# Altium schematic symbol library SCHLIB_Autobot.SchLib: 4 symbols
Pins are listed as number, name and electrical type; pins without a type are passive.

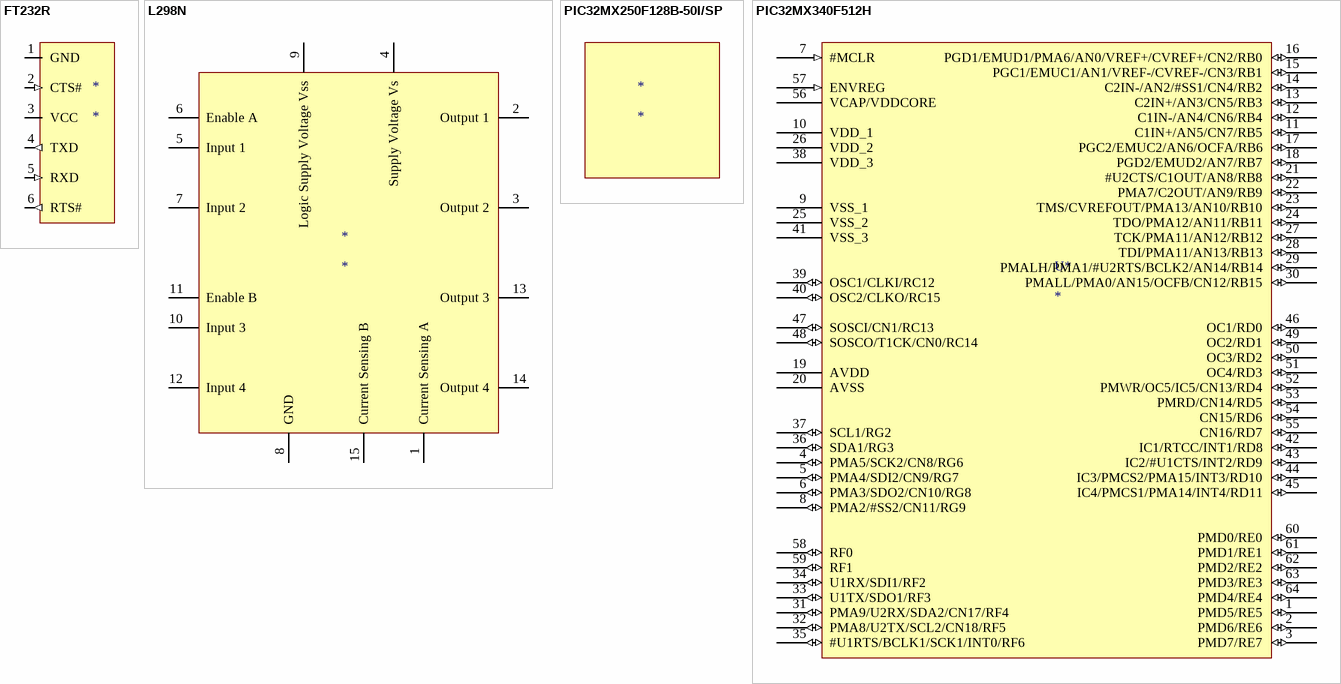
[diagram p0: symbols FT232R to PIC32MX340F512H]

## FT232R
designator *
pins: 1 GND, 2 CTS# (in), 3 VCC (power), 4 TXD (out), 5 RXD (in), 6 RTS# (out)

## L298N
designator *
footprint L298N (Motor Controller - Multiwatt15 V)
pins: 1 Current Sensing A, 2 Output 1, 3 Output 2, 4 Supply Voltage Vs, 5 Input 1, 6 Enable A, 7 Input 2, 8 GND, 9 Logic Supply Voltage Vss, 10 Input 3, 11 Enable B, 12 Input 4, 13 Output 3, 14 Output 4, 15 Current Sensing B

## PIC32MX250F128B-50I/SP
designator *

## PIC32MX340F512H
designator U*
pins: 1 PMD5/RE5 (io), 2 PMD6/RE6 (io), 3 PMD7/RE7 (io), 4 PMA5/SCK2/CN8/RG6 (io), 5 PMA4/SDI2/CN9/RG7 (io), 6 PMA3/SDO2/CN10/RG8 (io), 7 #MCLR (in), 8 PMA2/#SS2/CN11/RG9 (io), 9 VSS_1 (power), 10 VDD_1 (power), 11 C1IN+/AN5/CN7/RB5 (io), 12 C1IN-/AN4/CN6/RB4 (io), 13 C2IN+/AN3/CN5/RB3 (io), 14 C2IN-/AN2/#SS1/CN4/RB2 (io), 15 PGC1/EMUC1/AN1/VREF-/CVREF-/CN3/RB1 (io), 16 PGD1/EMUD1/PMA6/AN0/VREF+/CVREF+/CN2/RB0 (io), 17 PGC2/EMUC2/AN6/OCFA/RB6 (io), 18 PGD2/EMUD2/AN7/RB7 (io), 19 AVDD (power), 20 AVSS (power), 21 #U2CTS/C1OUT/AN8/RB8 (io), 22 PMA7/C2OUT/AN9/RB9 (io), 23 TMS/CVREFOUT/PMA13/AN10/RB10 (io), 24 TDO/PMA12/AN11/RB11 (io), 25 VSS_2 (power), 26 VDD_2 (power), 27 TCK/PMA11/AN12/RB12 (io), 28 TDI/PMA11/AN13/RB13 (io), 29 PMALH/PMA1/#U2RTS/BCLK2/AN14/RB14 (io), 30 PMALL/PMA0/AN15/OCFB/CN12/RB15 (io), 31 PMA9/U2RX/SDA2/CN17/RF4 (io), 32 PMA8/U2TX/SCL2/CN18/RF5 (io), 33 U1TX/SDO1/RF3 (io), 34 U1RX/SDI1/RF2 (io), 35 #U1RTS/BCLK1/SCK1/INT0/RF6 (io), 36 SDA1/RG3 (io), 37 SCL1/RG2 (io), 38 VDD_3 (power), 39 OSC1/CLKI/RC12 (io), 40 OSC2/CLKO/RC15 (io), 41 VSS_3 (power), 42 IC1/RTCC/INT1/RD8 (io), 43 IC2/#U1CTS/INT2/RD9 (io), 44 IC3/PMCS2/PMA15/INT3/RD10 (io), 45 IC4/PMCS1/PMA14/INT4/RD11 (io), 46 OC1/RD0 (io), 47 SOSCI/CN1/RC13 (io), 48 SOSCO/T1CK/CN0/RC14 (io), 49 OC2/RD1 (io), 50 OC3/RD2 (io), 51 OC4/RD3 (io), 52 PMWR/OC5/IC5/CN13/RD4 (io), 53 PMRD/CN14/RD5 (io), 54 CN15/RD6 (io), 55 CN16/RD7 (io), 56 VCAP/VDDCORE (power), 57 ENVREG (in), 58 RF0 (io), 59 RF1 (io), 60 PMD0/RE0 (io), 61 PMD1/RE1 (io), 62 PMD2/RE2 (io), 63 PMD3/RE3 (io), 64 PMD4/RE4 (io)